# Altium footprint library QUTMS_Transistors.PcbLib: 2 footprints
Each footprint in its own frame and in the unit in brackets; x right, y up, seen from the top. Pads: shape width x height; smd on the part's side, far side on the other; paste and mask are expansions set on the pad; w line width, h text height; cw(c..) or ccw(c..) is an arc to the next point about the centre after c.
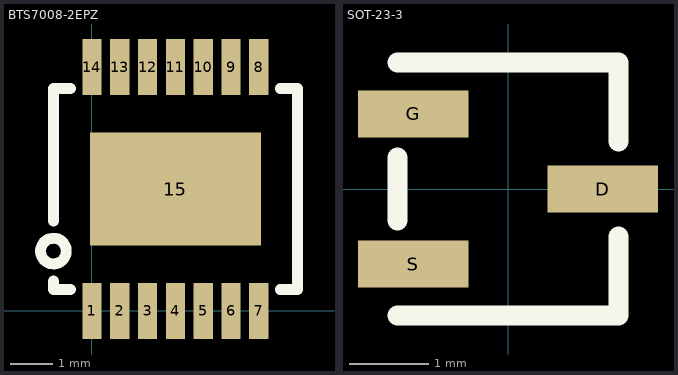
[diagram p0: the footprints below, top view; thin cyan lines are the x and y axes]

## BTS7008-2EPZ [mm]
pads (15):
  rect 0.45x1.31 smd: 1(0,0) 2(0.65,0) 3(1.3,0) 4(1.95,0) 5(2.6,0) 6(3.25,0) 7(3.9,0) 8(3.9,5.7) 9(3.25,5.7) 10(2.6,5.7) 11(1.95,5.7) 12(1.3,5.7) 13(0.65,5.7) 14(0,5.7)
  rect 4x2.65 smd: 15(1.95,2.85)
Top Overlay:
  circle w0.254: c-0.9,1.4 r0.3
  lines w0.254: -0.9,0.7 -0.9,0.5 -0.5,0.5 ; -0.9,2.1 -0.9,5.2 -0.5,5.2 ; 4.4,0.5 4.8,0.5 4.8,5.2 4.4,5.2

## SOT-23-3 [mm]
pads (3):
  rect 1.4x0.6 smd: D(1.2,0) G(-1.2,0.95) S(-1.2,-0.95)
Top Overlay:
  lines w0.254: -1.4,-1.6 1.4,-1.6 1.4,-0.6 ; -1.4,-0.4 -1.4,0.4 ; -1.4,1.6 1.4,1.6 1.4,0.6
3D body "SOT-23-3.stp": height 1, standoff 0, extent -1.2,-1.45 1.2,1.45